# Altium footprint library SHT21.PcbLib: 2 footprints
Each footprint in its own frame and in the unit in brackets; x right, y up, seen from the top. Pads: shape width x height; smd on the part's side, far side on the other; paste and mask are expansions set on the pad; w line width, h text height; cw(c..) or ccw(c..) is an arc to the next point about the centre after c.
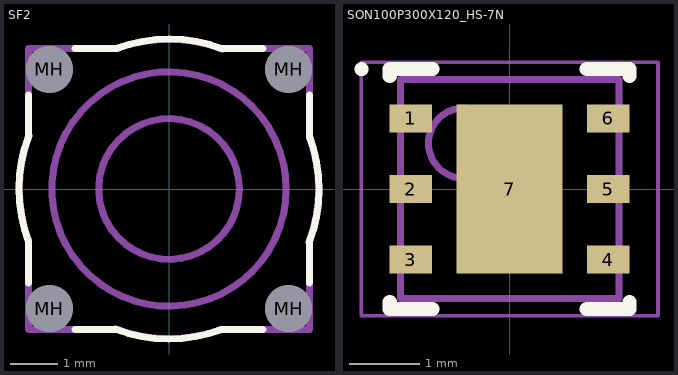
[diagram p0: the footprints below, top view; thin cyan lines are the x and y axes]

## SF2 [mm] "SHT21 filter cap"
height 1.9
pads (4):
  round 1 hole 1 unplated: MH(-2.55,-2.55) MH(-2.55,2.55) MH(2.55,-2.55) MH(2.55,2.55)
Top Overlay:
  lines w0.15: -3,-2 -3,-1.15 ; -3,1.15 -3,2 ; -2.998,-1.118 cw(c0,0) -2.988,1.145 ; -2,-3 -1.15,-3 ; -2,3 -1.15,3 ; -1.145,-2.988 ccw(c0,0) 1.118,-2.998 ; -1.118,2.998 cw(c0,0) 1.145,2.988 ; 1.15,-3 2,-3 ; 1.15,3 2,3 ; 2.988,-1.145 ccw(c0,0) 2.998,1.118 ; 3,-2 3,-1.15 ; 3,1.15 3,2
Mechanical 1:
  circle w0.15: c0,0 r1.5
  circle w0.15: c0,0 r2.5
  lines w0.15: -3,-3 -3,-1.1 cw(c0,0) -3,1.1 -3,3 -1.1,3 cw(c0,0) 1.1,3 3,3 3,1.1 cw(c0,0) 3,-1.1 3,-3 1.1,-3 cw(c0,0) -1.1,-3 -3,-3
3D body: height 1.4, standoff 0, extent -1.499,-1.499 1.499,1.499
3D body: height 1.4, standoff 0, extent -1.499,-1.499 1.499,1.499
3D body: height 1.9, standoff 0, extent -2.499,-2.499 2.499,2.499
3D body: height 1.4, standoff 0, extent -3.196,-3.196 3.196,3.196

## SON100P300X120_HS-7N [mm] "SON, 6-Leads, Body 3,00x3,00mm, Pitch 1,00mm, Thermal Pad 2,40x1,50mm, IPC Medium Density"
height 1.2
pads (7):
  rect 0.6x0.4 smd: 1(-1.4,1) 2(-1.4,0) 3(-1.4,-1) 4(1.4,-1) 5(1.4,0) 6(1.4,1)
  rect 1.5x2.4 smd: 7(0,0)
Top Overlay:
  circle w0.1: c-2.1,1.7 r0.05
  lines w0.2: -1.7,-1.6 -1.7,-1.7 -1.095,-1.7 ; -1.7,1.6 -1.7,1.7 -1.095,1.7 ; 1.095,-1.7 1.7,-1.7 1.7,-1.6 ; 1.095,1.7 1.7,1.7 1.7,1.6
Mechanical 13:
  circle w0.1: c-0.65,0.65 r0.5
  lines w0.1: -1.55,-1.55 -1.55,1.55 1.55,1.55 1.55,-1.55 -1.55,-1.55
Mechanical 15:
  lines w0.05: -2.105,-1.8 -2.105,1.8 2.105,1.8 2.105,-1.8 -2.105,-1.8
  lines w0.1: -0.5,0 0.5,0 ; 0,-0.5 0,0.5
3D body: height 1.2, standoff 0.01, extent -1.55,-1.55 1.55,1.55